# Altium footprint library STM32F103VET6.PcbLib: 79 footprints (part 3 of 5)
Each footprint in its own frame and in the unit in brackets; x right, y up, seen from the top. Pads: shape width x height; smd on the part's side, far side on the other; paste and mask are expansions set on the pad; w line width, h text height; cw(c..) or ccw(c..) is an arc to the next point about the centre after c.
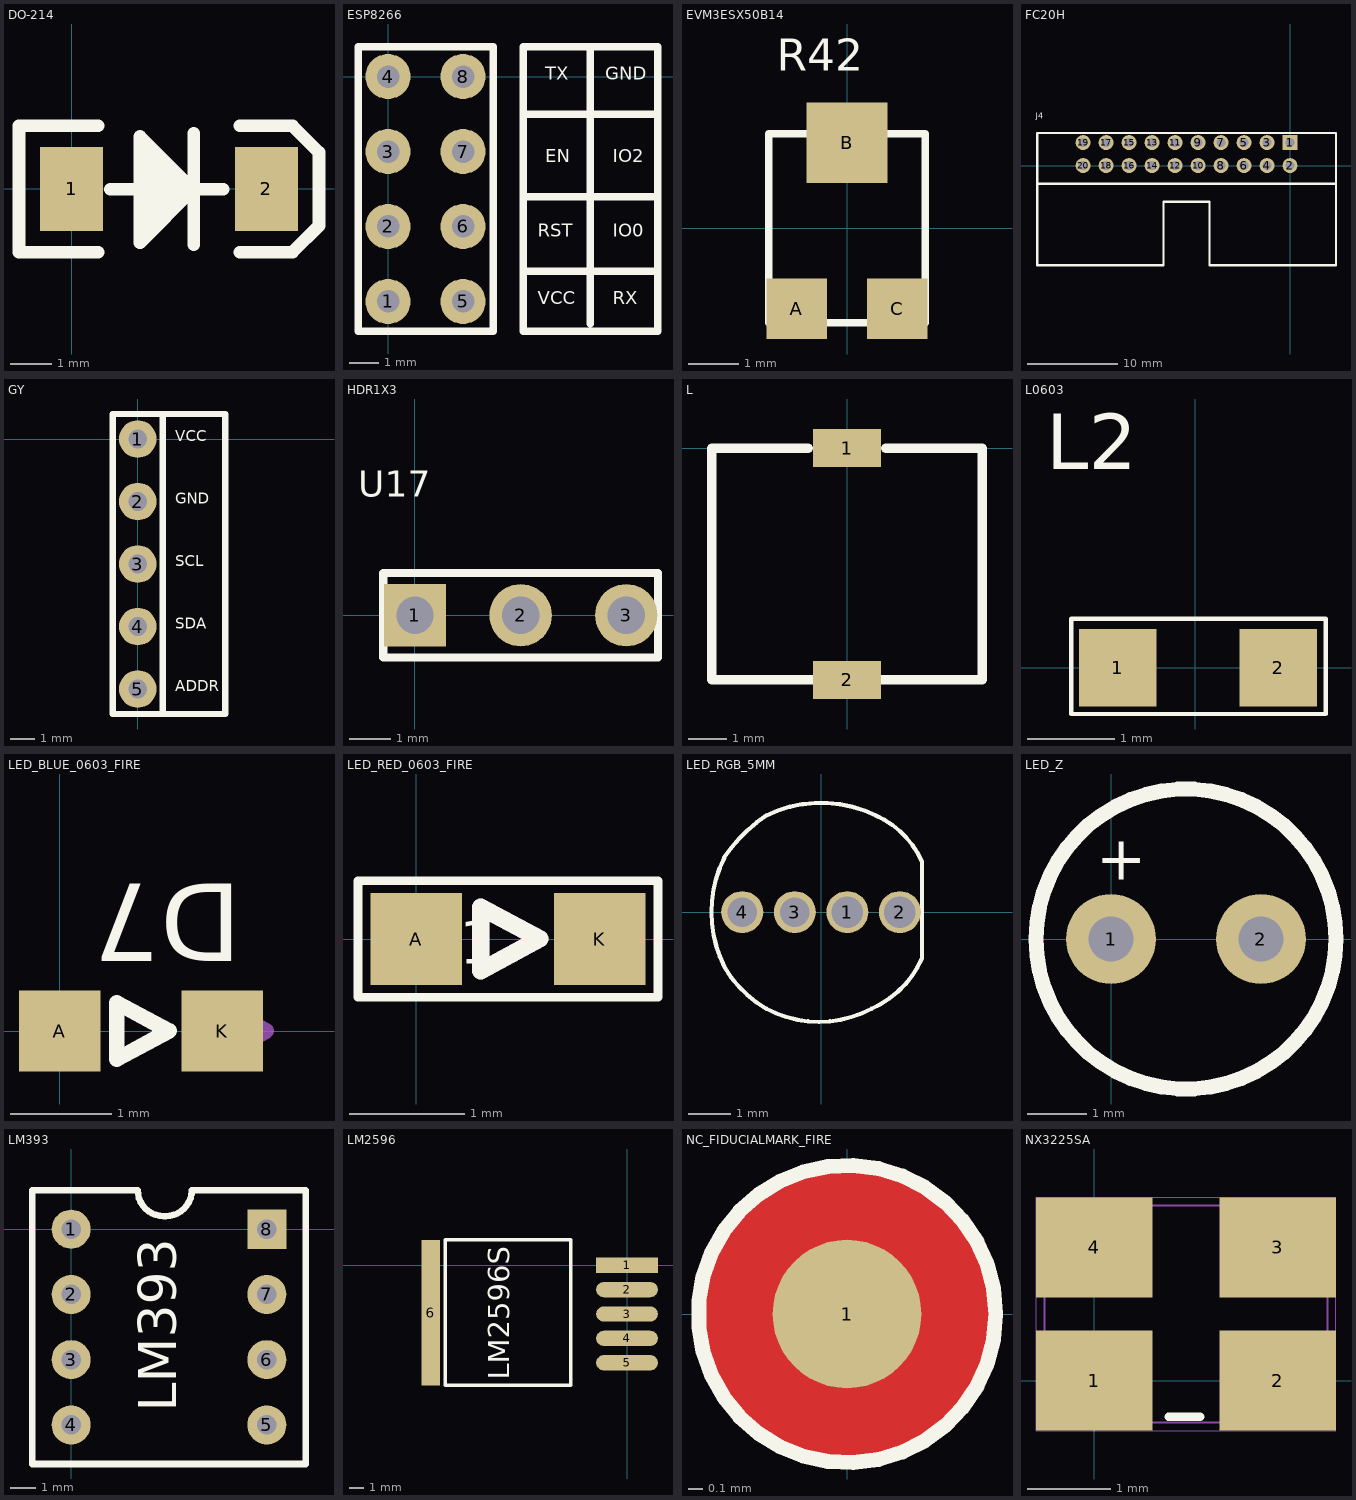
[diagram p2: the footprints below, top view; thin cyan lines are the x and y axes]

## DO-214 [mil]
pads (2):
  rect 60x80 smd: 1(0,0) 2(185,0)
Top Overlay:
  region: 64.92,-25.05 91,-25.05 91,22.87 64.92,22.87
  lines w12: 25,-60 -50,-60 -50,60 25,60 ; 36.92,-0.13 143.92,-0.13 ; 64.92,33.87 100.29,-1.51 66.66,-35.13 ; 115.92,-53.13 115.92,52.87 ; 160,-60 209.92,-60 235,-34.92 235,34.87 209.87,60 160,60 ; 64.92,-51.13 64.92,49.87 115.92,-1.13 115.92,-0.13 64.92,-51.13

## ESP8266 [mil]
pads (8):
  round 60 hole 30: 1(0,-300) 2(0,-200) 3(0,-100) 4(0,0) 5(100,-300) 6(100,-200) 7(100,-100) 8(100,0)
Top Overlay:
  lines w10: 180,-260 360,-260 ; 180,-160 360,-160 ; 180,-50 360,-50 ; 270,-330 270,40 ; -40,-340 120,-340 140,-340 140,40 -40,40 -40,-340 ; 180,-340 300,-340 340,-340 360,-340 360,40 180,40 180,-340
  text "GND" at 290,-10 h30
  text "IO2" at 300,-120 h30
  text "IO0" at 300,-220 h30
  text "RX" at 300,-310 h30
  text "TX" at 210,-10 h30
  text "EN" at 210,-120 h30
  text "RST" at 200,-220 h30
  text "VCC" at 200,-310 h30

## EVM3ESX50B14 [mm]
pads (3):
  rect 1.2x1.2 smd: A(-1,-1.6) C(1,-1.6)
  rect 1.6x1.6 smd: B(0,1.7)
Top Overlay:
  lines w0.15: -1.55,-1.875 -1.55,1.875 1.55,1.875 1.55,-1.875 -1.55,-1.875
  text "R42" at -1.397,3.124 h0.64

## FC20H [mil]
pads (20):
  rect 65x65 hole 40: 1(0,100)
  round 65 hole 40: 2(0,0) 3(-100,100) 4(-100,0) 5(-200,100) 6(-200,0) 7(-300,100) 8(-300,0) 9(-400,100) 10(-400,0) 11(-500,100) 12(-500,0) 13(-600,100) 14(-600,0) 15(-700,100) 16(-700,0) 17(-800,100) 18(-800,0) 19(-900,100) 20(-900,0)
Top Overlay:
  lines w10: -1100,-78.74 200,-78.74 ; -1100,-78.74 -1100,141.26 200,141.26 200,-78.74 ; -1100,-78.74 -1100,-433.07 -550,-433.07 -550,-157.48 -350,-157.48 -350,-433.07 200,-433.07 200,-78.74
  text "J4" at -1105,204.26 h25

## GY [mil]
pads (5):
  round 60 hole 30: 1(0,0) 2(0,-100) 3(0,-200) 4(0,-300) 5(0,-400)
Top Overlay:
  lines w10: 40,-440 140,-440 140,40 40,40 ; 40,-440 40,40 ; 40,-440 -40,-440 -40,40 40,40
  text "ADDR" at 60,-410 h30
  text "SDA" at 60,-310 h30
  text "SCL" at 60,-210 h30
  text "VCC" at 60,-10 h30
  text "GND" at 60,-110 h30

## HDR1X3 [mm]
height 1.2
pads (3):
  rect 1.5x1.5 hole 0.9: 1(0,0)
  round 1.5 hole 0.9: 2(2.54,0) 3(5.08,0)
Top Overlay:
  lines w0.2: -0.762,-1.016 -0.762,1.016 5.842,1.016 5.842,-1.016 -0.762,-1.016
  text "U17" at -1.37,2.843 h0.64

## L [mm]
pads (2):
  rect 1.8x1 all layers, no hole: 1(0,0) 2(0,-6.096)
Top Overlay:
  lines w0.254: -1.016,0 -3.556,0 -3.556,-6.096 3.556,-6.096 3.556,0 1.016,0

## L0603 [mil]
pads (2):
  rect 35x35 smd: 1(-35,0) 2(37.49,0)
Top Overlay:
  lines w2: -56,-21 59,-21 59,22 -56,22 -56,-21
  text "L2" at -67.24,89.5 h25

## LED_BLUE_0603_FIRE [mm]
pads (2):
  rect 0.8x0.8 smd: A(0,0) K(1.6,0)
Top Overlay:
  lines w0.152: 0.562,-0.277 0.562,0.277 1.076,0.001 0.562,-0.277
  text "D7" at 1.79,1.45 h0.76
Mechanical 1:
  lines w0.152: 1.521,-0.277 1.521,0.277 2.035,0.001 1.521,-0.277

## LED_RED_0603_FIRE [mm]
pads (2):
  rect 0.8x0.8 smd: A(0,0) K(1.6,0)
Top Overlay:
  lines w0.076: -0.508,-0.508 -0.508,0.508 2.108,0.508 2.108,-0.508 -0.508,-0.508
  lines w0.152: 0.562,-0.277 0.562,0.277 1.076,0.001 0.562,-0.277
  text "D1" at -0.026,-0.214 h0.38
Mechanical 1:
  lines w0.152: 0.562,-0.277 0.562,0.277 1.076,0.001 0.562,-0.277

## LED_RGB_5MM [mm]
pads (4):
  round 1 hole 0.75: 1(0.625,0) 2(1.875,0)
  round 1 hole 0.7: 3(-0.625,0) 4(-1.875,0)
Top Overlay:
  lines w0.1: -2.301,1.297 ccw(c0.3,0) -2.299,-1.302 ; -2.299,-1.301 ccw(c0.05,0.05) -1.301,-2.299 ; -2.299,1.302 cw(c0.65,-0.65) -1.297,2.302 ; -1.3,-2.3 ccw(c-0.05,0.05) 1.2,-2.3 ; -1.299,2.301 cw(c0,-0.35) 1.303,2.298 ; 1.202,-2.299 ccw(c0.25,-0.15) 2.401,-1.099 ; 1.302,2.299 cw(c0.45,0.35) 2.401,1.198 ; 2.4,-1.1 2.4,1.2
  text "D3" at 0.228,-0.214 h0.38

## LED_Z [mil]
pads (2):
  round 60 hole 30: 1(0,0) 2(100,0)
Top Overlay:
  circle w10: c50,0 r100
  text "+" at -10,30 h50

## LM393 [mil]
pads (8):
  round 60 hole 30: 1(0,0) 2(0,-100) 3(0,-200) 4(0,-300) 5(300,-300) 6(300,-200) 7(300,-100)
  rect 60x60 hole 30: 8(300,0)
Top Overlay:
  lines w10: 100,60 -60,60 -60,-340 -60,-360 360,-360 360,60 200,60 185,60 cw(c145,60) 145,20 ; 102,60 ccw(c142,60) 142,20
  text "LM393" at 180,-280 h100

## LM2596 [mil]
pads (6):
  rect 170x42 smd: 1(0,0)
  oval 170x42 smd: 2(0,-67) 3(0,-134) 4(0,-201) 5(0,-268)
  rect 50x400 smd: 6(-540,-130)
Top Overlay:
  lines w10: -500,-330 -155,-330 -155,70 -500,70 -500,-330
  text "LM2596S" at -305,-315 h100

## NC_FIDUCIALMARK_FIRE [mm]
pads (1):
  round 1 smd: 1(0,0)
Top Layer:
  pour cut-out: 1.009,0 0.974,0.261 0.873,0.504 0.713,0.713 0.504,0.873 0.261,0.974 0,1.009 -0.261,0.974 -0.504,0.873 -0.713,0.713 -0.873,0.504 -0.974,0.261 -1.009,0 -0.974,-0.261 -0.873,-0.504 -0.713,-0.713 -0.504,-0.873 -0.261,-0.974 0,-1.009 0.261,-0.974 0.504,-0.873 0.713,-0.713 0.873,-0.504 0.974,-0.261
Top Overlay:
  circle w0.1: c0,0 r1
Top Solder:
  region: 1.009,0 0.974,0.261 0.873,0.504 0.713,0.713 0.504,0.873 0.261,0.974 0,1.009 -0.261,0.974 -0.504,0.873 -0.713,0.713 -0.873,0.504 -0.974,0.261 -1.009,0 -0.974,-0.261 -0.873,-0.504 -0.713,-0.713 -0.504,-0.873 -0.261,-0.974 0,-1.009 0.261,-0.974 0.504,-0.873 0.713,-0.713 0.873,-0.504 0.974,-0.261

## NX3225SA [mm]
pads (4):
  rect 1.4x1.2 smd paste-0.06 mask+0.05: 1(0,0) 2(2.2,0) 3(2.2,1.6) 4(0,1.6)
Top Overlay:
  lines w0.1: 0.889,-0.432 1.27,-0.432
Mechanical 16:
  lines w0.003: -0.7,-0.6 -0.7,2.2 2.9,2.2 2.9,-0.6 -0.7,-0.6
  lines w0.025: -0.6,-0.5 -0.6,2.1 2.8,2.1 2.8,-0.5 -0.6,-0.5